# Altium footprint library Components.PcbLib: 3 footprints
Each footprint in its own frame and in the unit in brackets; x right, y up, seen from the top. Pads: shape width x height; smd on the part's side, far side on the other; paste and mask are expansions set on the pad; w line width, h text height; cw(c..) or ccw(c..) is an arc to the next point about the centre after c.
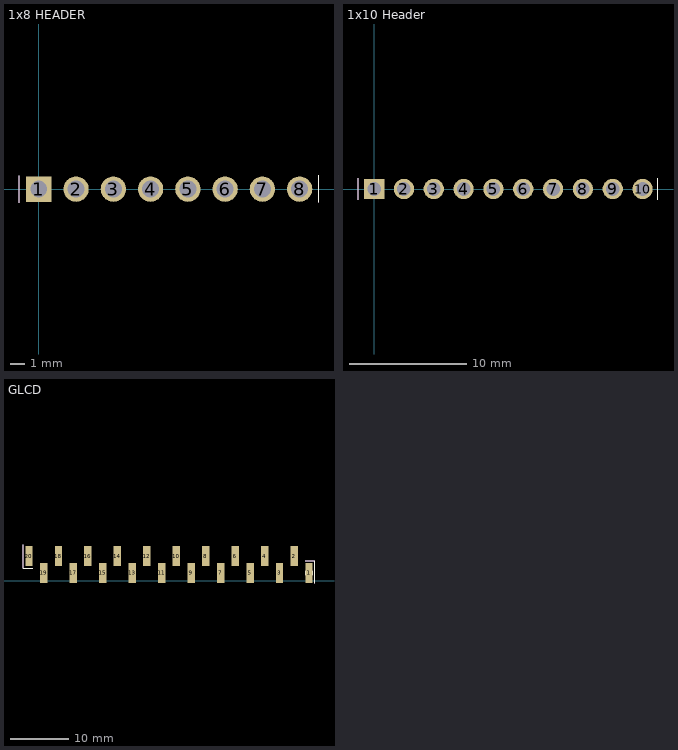
[diagram p0: the footprints below, top view; thin cyan lines are the x and y axes]

## 1x8 HEADER [mm]
pads (8):
  rect 1.725x1.725 hole 1.15: 1(0,0)
  round 1.725 hole 1.15: 2(2.54,0) 3(5.08,0) 4(7.62,0) 5(10.16,0) 6(12.7,0) 7(15.24,0) 8(17.78,0)
Top Overlay:
  circle w0.54: c0,0 r0.25
  lines w0.05: -1.35,-0.925 -1.35,0.925 ; 19.1,-0.9 19.1,0.95
Mechanical 29:
  circle w0.54: c0,0 r0.25
  lines w0.05: -1.35,-0.925 -1.35,0.925 ; 19.1,-0.9 19.1,0.95
  text "'.Designator'" at -1.4,-2.3 h1.2
3D body "10129378-908001BLF.stp": height 5.85, standoff -6.03, extent -1.285,-1.2 19.035,1.21

## 1x10 Header [mm]
pads (10):
  rect 1.725x1.725 hole 1.15: 1(0,0)
  round 1.725 hole 1.15: 2(2.54,0) 3(5.08,0) 4(7.62,0) 5(10.16,0) 6(12.7,0) 7(15.24,0) 8(17.78,0) 9(20.32,0) 10(22.86,0)
Top Overlay:
  circle w0.54: c0,0 r0.25
  region: 0,0
  lines w0.05: -1.375,-0.913 -1.375,0.925 ; 24.175,-0.925 24.175,0.925
Mechanical 29:
  circle w0.54: c0,0 r0.25
  region: 0,0
  lines w0.05: -1.375,-0.913 -1.375,0.925 ; 24.175,-0.925 24.175,0.925
  text "'.Designator'" at -1.52,-2.524 h1.2
3D body "10129378-910001BLF.stp": height 5.85, standoff -6.03, extent -1.305,-1.18 24.095,1.23

## GLCD [mm] "Graphic LCD 128x64"
pads (20):
  rect 1.27x3.43 smd: 1(58.51,1.355) 2(55.97,4.275) 3(53.43,1.355) 4(50.89,4.275) 5(48.35,1.355) 6(45.81,4.275) 7(43.27,1.355) 8(40.73,4.275) 9(38.19,1.355) 10(35.65,4.275) 11(33.11,1.355) 12(30.57,4.275) 13(28.03,1.355) 14(25.49,4.275) 15(22.95,1.355) 16(20.41,4.275) 17(17.87,1.355) 18(15.33,4.275) 19(12.79,1.355) 20(10.25,4.275)
Top Overlay:
  circle w1: c58.5,1.35 r0.2
  lines w0.2: 9.25,6.175 9.25,2.2 10.9,2.2 ; 57.85,3.45 59.525,3.45 59.525,-0.375
Mechanical 29:
  circle w1: c58.5,1.35 r0.2
  lines w0.2: 9.25,6.175 9.25,2.2 10.9,2.2 ; 57.85,3.45 59.525,3.45 59.525,-0.375
  text "GLCD" at -0.986,-4.141 h1.52
3D body "GLCD_SMT.step": height 15.02, standoff 0.01, extent 0,0 93,70.04